# Altium schematic symbol library ICs-V.SchLib: 7 symbols
Pins are listed as number, name and electrical type; pins without a type are passive.

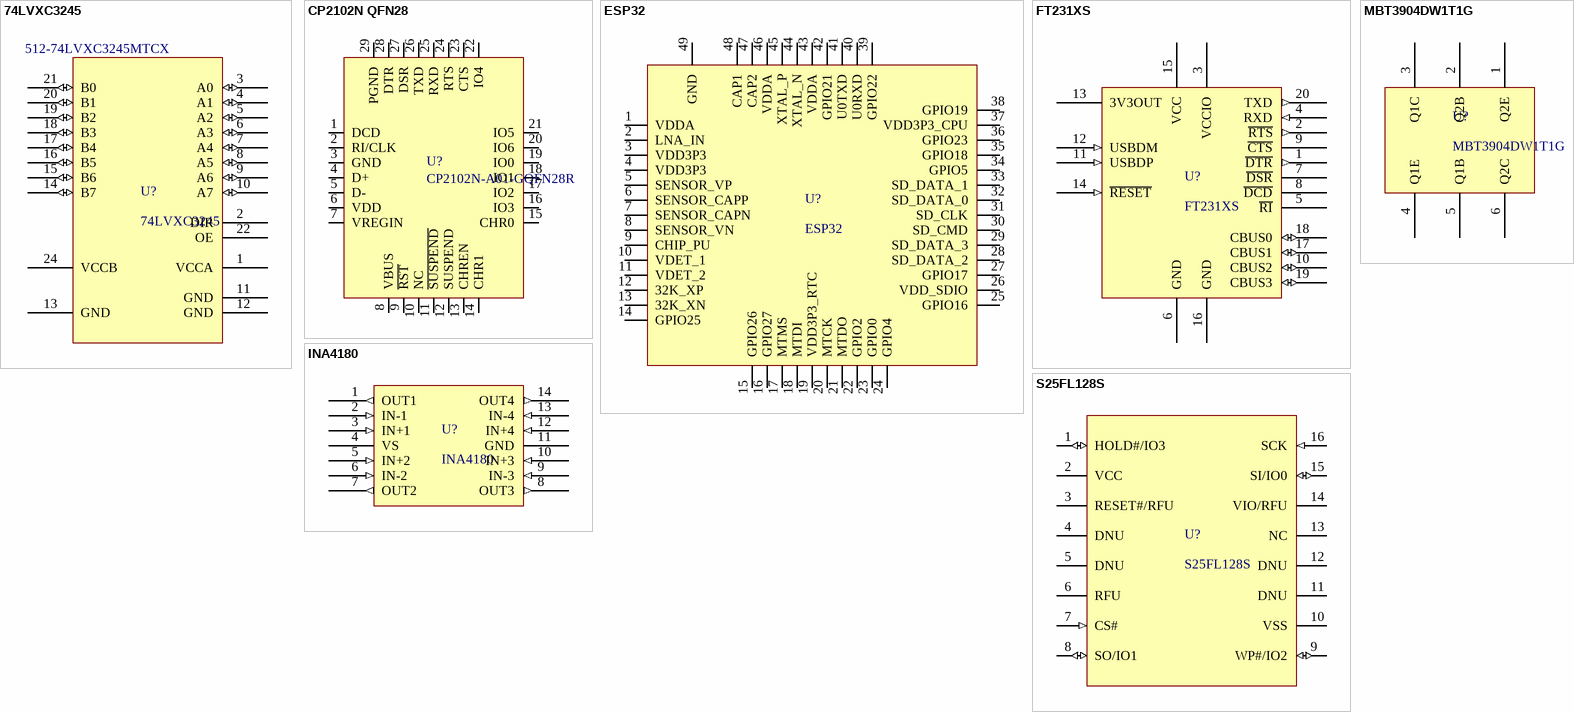
[diagram p0: symbols 74LVXC3245 to S25FL128S]

## 74LVXC3245
designator U?  Supplier Part Number 1: 512-74LVXC3245MTCX
Voltage Interface Transceiver; Supplier 1: Mouser
pins: 1 VCCA (power), 2 DIR, 3 A0 (io), 4 A1 (io), 5 A2 (io), 6 A3 (io), 7 A4 (io), 8 A5 (io), 9 A6 (io), 10 A7 (io), 11 GND (power), 12 GND (power), 13 GND (power), 14 B7 (io), 15 B6 (io), 16 B5 (io), 17 B4 (io), 18 B3 (io), 19 B2 (io), 20 B1 (io), 21 B0 (io), 22 OE, 24 VCCB (power)

## CP2102N QFN28
designator U?, comment CP2102N-A01-GQFN28R
USB to UART converter; Manufacturer: Silicon Labs; Supplier 1: Digi-Key; Supplier Part Number 1: 336-4738-1-ND; Manufacturer Part Number: CP2102N-A01-GQFN28R
footprint QFN50P500X500X80_HS-29N (QFN, 28-Leads, Body 5.00x5.00mm, Pitch 0.50mm, Thermal Pad 3.25x3.25mm, IPC Medium Density)
pins: 1 DCD, 2 RI/CLK, 3 GND (power), 4 D+, 5 D-, 6 VDD (power), 7 VREGIN (power), 8 VBUS, 9 ~{RST}, 10 NC, 11 ~{SUSPEND}, 12 SUSPEND, 13 CHREN, 14 CHR1, 15 CHR0, 16 IO3, 17 IO2, 18 IO1, 19 IO0, 20 IO6, 21 IO5, 22 IO4, 23 CTS, 24 RTS, 25 RXD, 26 TXD, 27 DSR, 28 DTR, 29 PGND

## ESP32
designator U?
WiFi & BLE  MCU
pins: 1 VDDA (power), 2 LNA_IN, 3 VDD3P3 (power), 4 VDD3P3, 5 SENSOR_VP, 6 SENSOR_CAPP, 7 SENSOR_CAPN, 8 SENSOR_VN, 9 CHIP_PU, 10 VDET_1, 11 VDET_2, 12 32K_XP, 13 32K_XN, 14 GPIO25, 15 GPIO26, 16 GPIO27, 17 MTMS, 18 MTDI, 19 VDD3P3_RTC, 20 MTCK, 21 MTDO, 22 GPIO2, 23 GPIO0, 24 GPIO4, 25 GPIO16, 26 VDD_SDIO, 27 GPIO17, 28 SD_DATA_2, 29 SD_DATA_3, 30 SD_CMD, 31 SD_CLK, 32 SD_DATA_0, 33 SD_DATA_1, 34 GPIO5, 35 GPIO18, 36 GPIO23, 37 VDD3P3_CPU, 38 GPIO19, 39 GPIO22, 40 U0RXD, 41 U0TXD, 42 GPIO21, 43 VDDA (power), 44 XTAL_N, 45 XTAL_P, 46 VDDA (power), 47 CAP2, 48 CAP1, 49 GND (power)

## FT231XS
designator U?
USB-UART Converter
footprint SOP64P600X175-20N (SOP, 20-Leads, Body 8.65x3.90mm, Pitch 0.64mm, IPC Medium Density)
pins: 1 ~{DTR} (out), 2 ~{RTS} (out), 3 VCCIO, 4 RXD (in), 5 ~{RI}, 6 GND (power), 7 ~{DSR}, 8 ~{DCD}, 9 ~{CTS}, 10 CBUS2 (io), 11 USBDP (in), 12 USBDM (in), 13 3V3OUT (power), 14 ~{RESET} (in), 15 VCC (power), 16 GND (power), 17 CBUS1 (io), 18 CBUS0 (io), 19 CBUS3 (io), 20 TXD (out)

## INA4180
designator U?
Current Sense Amplifier
pins: 1 OUT1 (out), 2 IN-1 (in), 3 IN+1 (in), 4 VS (power), 5 IN+2 (in), 6 IN-2 (in), 7 OUT2 (out), 8 OUT3 (out), 9 IN-3 (in), 10 IN+3 (in), 11 GND (power), 12 IN+4 (in), 13 IN-4 (in), 14 OUT4 (out)

## MBT3904DW1T1G
designator U?
Dual NPN Transistors
pins: 1 Q2E, 2 Q2B, 3 Q1C, 4 Q1E, 5 Q1B, 6 Q2C

## S25FL128S
designator U?
QSPI 128M Flash Memory
pins: 1 HOLD#/IO3 (io), 2 VCC (power), 3 RESET#/RFU, 4 DNU, 5 DNU, 6 RFU, 7 CS# (in), 8 SO/IO1 (io), 9 WP#/IO2 (io), 10 VSS (power), 11 DNU, 12 DNU, 13 NC, 14 VIO/RFU (power), 15 SI/IO0 (io), 16 SCK (in)